# Altium schematic symbol library Paralax.SchLib: 1 symbol
Pins are listed as number, name and electrical type; pins without a type are passive.

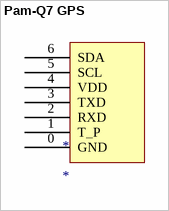
[diagram p0: symbol Pam-Q7 GPS]

## Pam-Q7 GPS
designator *
pins: 0 GND, 1 T_P, 2 RXD , 3 TXD, 4 VDD, 5 SCL, 6 SDA